# EAGLE library part 61003218221 (library Wuerth_Elektronik_eiCan_Pin_&_Socked_Headers_v1.3)
WR-PHD 2.54mm SMT Pin Header, 32 Pins
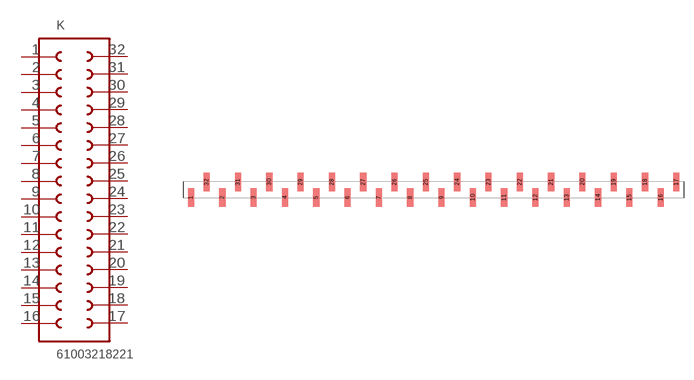
[diagram p81: symbol with the pads of 61003218221; footprint 61003218221]

Designator prefix K

## 61003218221  [61003218221]
1  1  pas
2  2  pas
3  3  pas
4  4  pas
5  5  pas
6  6  pas
7  7  pas
8  8  pas
9  9  pas
10  10  pas
11  11  pas
12  12  pas
13  13  pas
14  14  pas
15  15  pas
16  16  pas
17  17  pas
18  18  pas
19  19  pas
20  20  pas
21  21  pas
22  22  pas
23  23  pas
24  24  pas
25  25  pas
26  26  pas
27  27  pas
28  28  pas
29  29  pas
30  30  pas
31  31  pas
32  32  pas

## Footprint 61003218221 (pad centres in mm)
WR-PHD 2.54mm SMT Pin Header, 32 Pins
smd 1 x 3: 1 -39.37,-1.25; 2 -34.29,-1.25; 3 -29.21,-1.25; 4 -24.13,-1.25; 5 -19.05,-1.25; 6 -13.97,-1.25; 7 -8.89,-1.25; 8 -3.81,-1.25; 9 1.27,-1.25; 10 6.35,-1.25; 11 11.43,-1.25; 12 16.51,-1.25; 13 21.59,-1.25; 14 26.67,-1.25; 15 31.75,-1.25; 16 36.83,-1.25; 17 39.37,1.25; 18 34.29,1.25; 19 29.21,1.25; 20 24.13,1.25; 21 19.05,1.25; 22 13.97,1.25; 23 8.89,1.25; 24 3.81,1.25; 25 -1.27,1.25; 26 -6.35,1.25; 27 -11.43,1.25; 28 -16.51,1.25; 29 -21.59,1.25; 30 -26.67,1.25; 31 -31.75,1.25; 32 -36.83,1.25